# EAGLE library part RPI_BPLUS_CONN (library dawidkulpa_con)
Raspberry Pi B+ 2x40 connector
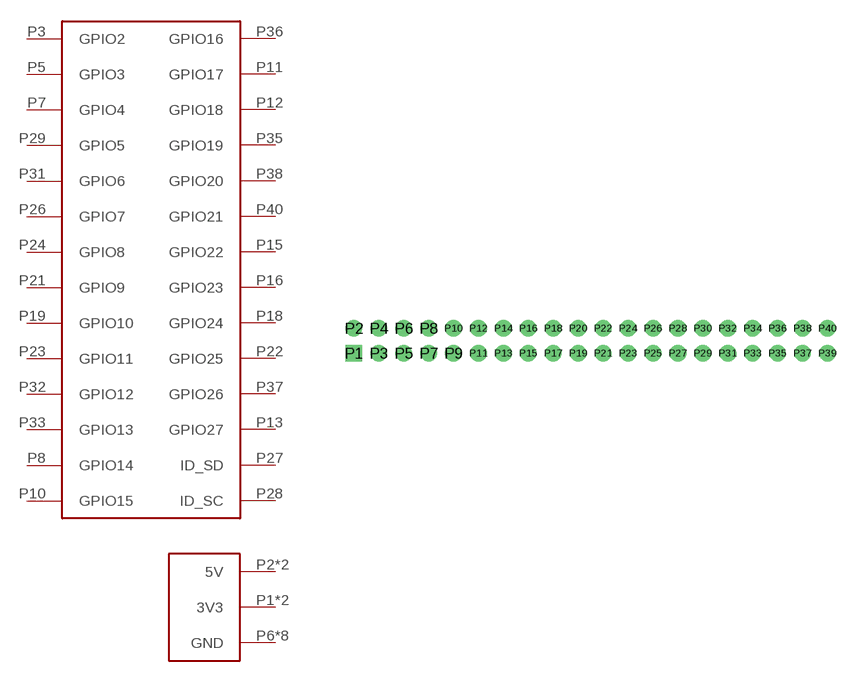
[diagram p11: symbol with the pads of GP_40M; footprint GP_40M]

Designator prefix -

## RPI_BPLUS_CONN  [GP_40M]
P1  3V3
P2  5V
P3  GPIO2
P4  5V
P5  GPIO3
P6  GND
P7  GPIO4
P8  GPIO14
P9  GND
P10  GPIO15
P11  GPIO17
P12  GPIO18
P13  GPIO27
P14  GND
P15  GPIO22
P16  GPIO23
P17  3V3
P18  GPIO24
P19  GPIO10
P20  GND
P21  GPIO9
P22  GPIO25
P23  GPIO11
P24  GPIO8
P25  GND
P26  GPIO7
P27  ID_SD
P28  ID_SC
P29  GPIO5
P30  GND
P31  GPIO6
P32  GPIO12
P33  GPIO13
P34  GND
P35  GPIO19
P36  GPIO16
P37  GPIO26
P38  GPIO20
P39  GND
P40  GPIO21

## Footprint GP_40M (pad centres in mm)
drill 1 pad 1.7 square: P1 -24.13,-1.27
drill 1 pad 1.7: P2 -24.13,1.27; P3 -21.59,-1.27; P4 -21.59,1.27; P5 -19.05,-1.27; P6 -19.05,1.27; P7 -16.51,-1.27; P8 -16.51,1.27; P9 -13.97,-1.27; P10 -13.97,1.27; P11 -11.43,-1.27; P12 -11.43,1.27; P13 -8.89,-1.27; P14 -8.89,1.27; P15 -6.35,-1.27; P16 -6.35,1.27; P17 -3.81,-1.27; P18 -3.81,1.27; P19 -1.27,-1.27; P20 -1.27,1.27; P21 1.27,-1.27; P22 1.27,1.27; P23 3.81,-1.27; P24 3.81,1.27; P25 6.35,-1.27; P26 6.35,1.27; P27 8.89,-1.27; P28 8.89,1.27; P29 11.43,-1.27; P30 11.43,1.27; P31 13.97,-1.27; P32 13.97,1.27; P33 16.51,-1.27; P34 16.51,1.27; P35 19.05,-1.27; P36 19.05,1.27; P37 21.59,-1.27; P38 21.59,1.27; P39 24.13,-1.27; P40 24.13,1.27